# EAGLE library part 06FLZ-SM1 (library con-jst)
CONNECTOR
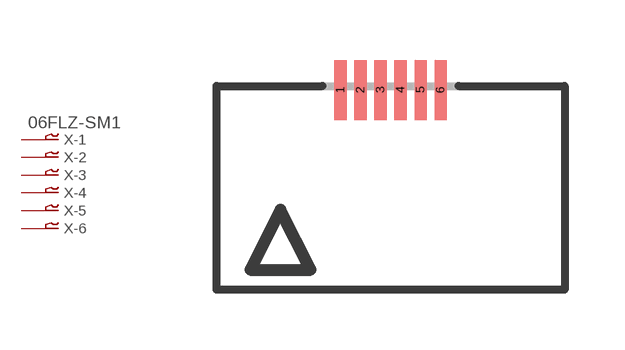
[diagram p17: symbol with the pads of 6FLZ-SM; footprint 6FLZ-SM]

Designator prefix X; gates -1=P-VN -2=P-N -3=P-N -4=P-N -5=P-N -6=P-N

## 06FLZ-SM1 (OC_FARNELL: unknown; OC_NEWARK: unknown)  [6FLZ-SM]
1  -1:1  pas
2  -2:1  pas
3  -3:1  pas
4  -4:1  pas
5  -5:1  pas
6  -6:1  pas

## Footprint 6FLZ-SM (pad centres in mm)
CONNECTOR
smd 0.3 x 1.5: 1 -1.25,2.5; 2 -0.75,2.5; 3 -0.25,2.5; 4 0.25,2.5; 5 0.75,2.5; 6 1.25,2.5